# EAGLE library part LTC3541-2 (library PowerProducts)
High Efficiency Buck + VLDO Regulator
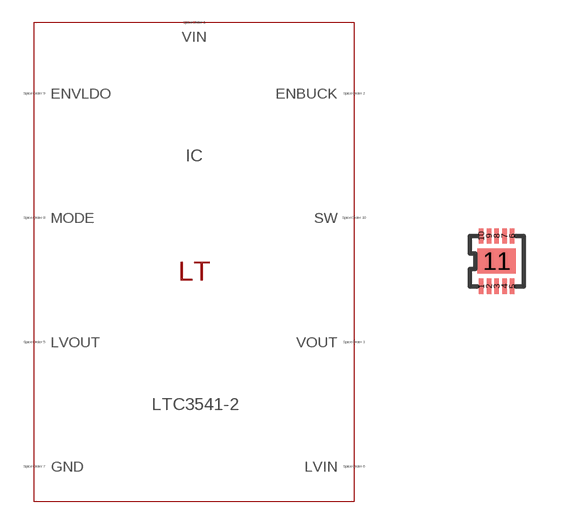
[diagram p231: symbol with the pads of DFN10(DD); footprint DFN10(DD)]

Designator prefix IC

## LTC3541-2 (SPICEMODEL: LTC3541-2.sub; SPICEPREFIX: X; VALUE2: LTC3541-2)  [DFN10(DD)]
1  VIN  pas
2  ENBUCK  pas
3  VOUT  pas
5  LVOUT  pas
6  LVIN  pas
7  GND  pas
8  MODE  pas
9  ENVLDO  pas
10  SW  pas
11  GND  pas

## Footprint DFN10(DD) (pad centres in mm)
Package generated from: DFN10(DD).asc (!PADS-POWERPCB-V9.3-BASIC! DESIGN DATABASE ASCII FILE 1.0) with :import-pads-powerpcb-v5.ulp Version 1.0.1 at 04.10.2012 14:11:16
smd 0.116 x 0.387: 1 -0.387,-0.629; 2 -0.194,-0.629; 3 0,-0.629; 4 0.194,-0.629; 5 0.387,-0.629; 6 0.387,0.629; 7 0.194,0.629; 8 0,0.629; 9 -0.194,0.629; 10 -0.387,0.629
smd 0.968 x 0.629: 11 0,0